# Altium integrated library Linear Technology Power Management System Supervisor, Monitor and Control.IntLib: 1611 symbols (part 69 of 100)
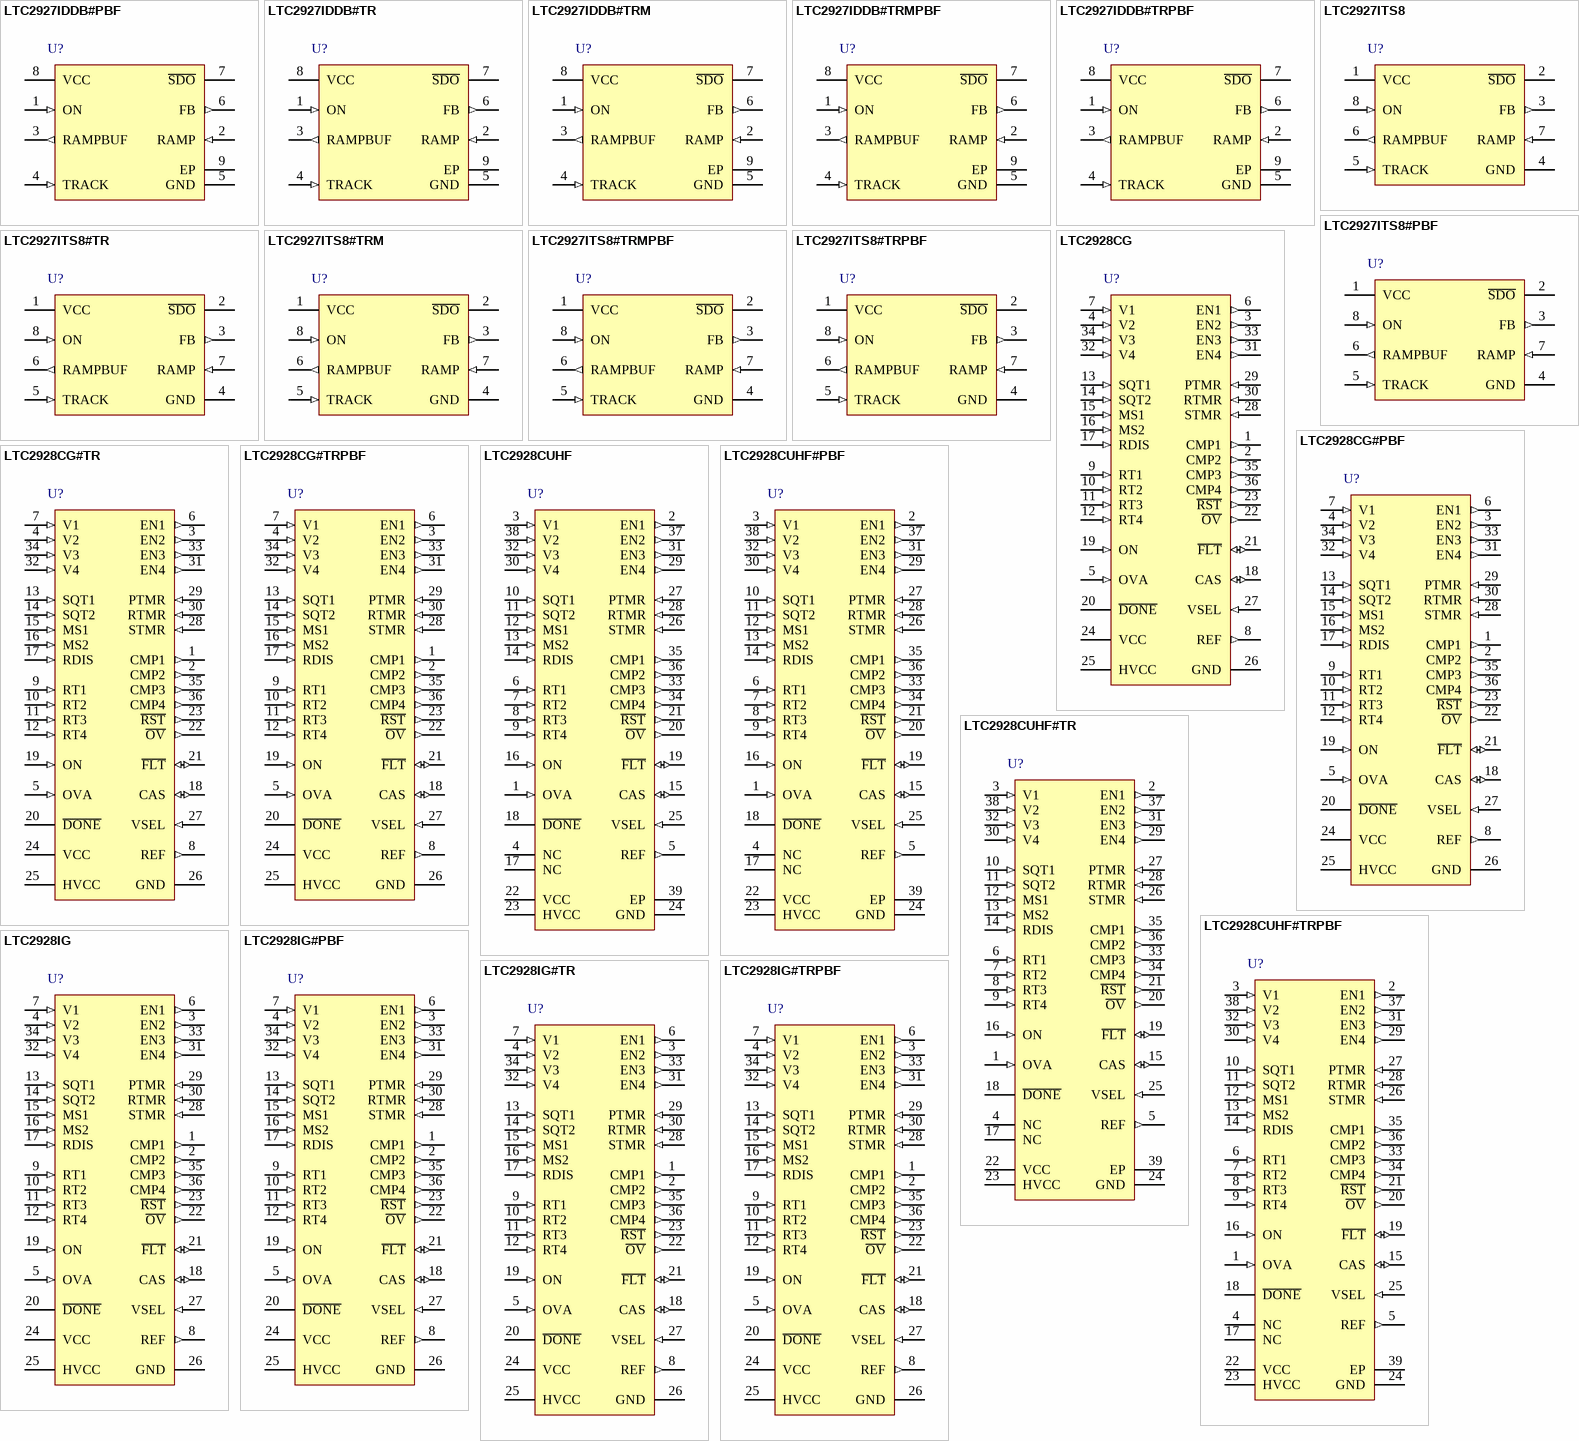
[diagram p113: symbols LTC2927IDDB#PBF to LTC2928IG#TRPBF]

## LTC2927IDDB#TRMPBF
designator U?
Single Power Supply Tracking Controller, 8-pin SON (DDB-8), -40 to 85 degC, Pb-Free, Mini Tape and Reel; Manufacturer: Linear Technology; PartNumber: LTC2927IDDB#TRMPBF; Number of Supplies(#): 1; DatasheetVersion: Rev. B; PackageVersion: Rev. B, 06/2010; PackageReference: DDB-8; PackageDescription: 8-Pin Plastic DFN, Body 3 x 2 mm, Pitch 0.5 mm; Supplier 1: Digi-Key; Supplier Part Number 1: LTC2927IDDB#TRMPBFTR-ND; Supplier 2: Digi-Key; Supplier Part Number 2: LTC2927IDDB#TRMPBFCT-ND; Supplier 3: Digi-Key; Supplier Part Number 3: LTC2927IDDB#TRMPBFDKR-ND; Packing: Mini Tape and Reel; RoHS: TRUE; Mounting Technology: Surface Mount; Code_JEDEC: MO-229; ComponentLink1Description: Manufacturer URL; ComponentLink1URL: http://www.linear.com/; ComponentLink2Description: Datasheet; ComponentLink2URL: http://cds.linear.com/docs/en/datasheet/2927fb.pdf; ComponentLink3Description: Package Specification; ComponentLink3URL: http://cds.linear.com/docs/en/packaging/DFN_8_05-08-1702.pdf
footprint LT-DDB-8_V (SON, 8-Leads, Body 3x2mm, Pitch 0.5mm, Thermal Pad 2.2x0.61mm)
pins: 1 ON (in) "On Control Input. The voltage level of the ON pin relative to its 1.23V threshold (with 75mV hysteresis) controls the tracking direction of the LTC2927. An active high causes a 10uA pull-up current to flow at the RAMP pin, (See Datasheet)", 2 RAMP (in) "Ramp Buffer Input. The RAMP pin is the input to the voltage buffer whose output drives a resistive voltage divider connected to the TRACK pin. Connect this input to a capacitor to set the ramp voltage generated from internal (See Datasheet)", 3 RAMPBUF (out) "Ramp Buffer Output. Provides a low impedance buffered version of the signal on the RAMP pin. This buffered output drives the resistive voltage divider that connects to the TRACK pin. Limit the capacitance at the RAMPBUF pin (See Datasheet)", 4 TRACK (in) "Tracking Control Input. A resistive voltage divider between RAMPBUF and TRACK determines the tracking profi le of the slave supply. TRACK servos to 0.8V, and the current supplied at TRACK is mirrored at FB. The TRACK pin is (See Datasheet)", 5 GND (power) "Device Ground.", 6 FB (out) "Feedback Control Output. FB pulls up on the feedback node of the slave supply. Tracking is achieved by mirroring the current from TRACK into FB. A resistive divider connecting RAMPBUF and TRACK will force the output voltage (See Datasheet)", 7 ~{SDO} (oc) "Slave Supply Shutdown Output. S\D\O\ is an open-drain output that holds the shutdown (RUN/SS) pin of the slave supply low until the VCC pin is pulled above 2.5V, and the ON pin is pulled above 1.23V, or RAMP is above 200mV. (See Datasheet)", 8 VCC (power) "Supply Voltage Input. Operating range is from 2.9V to 5.5V. An undervoltage lockout asserts S\D\O\ until VCC > 2.5V. VCC should be bypassed to GND with a 0.1uF capacitor.", 9 EP (power) "Exposed pad may be left open or connected to device ground."

## LTC2927IDDB#TRPBF
designator U?
Single Power Supply Tracking Controller, 8-pin SON (DDB-8), -40 to 85 degC, Pb-Free, Tape and Reel; Manufacturer: Linear Technology; PartNumber: LTC2927IDDB#TRPBF; Number of Supplies(#): 1; DatasheetVersion: Rev. B; PackageVersion: Rev. B, 06/2010; PackageReference: DDB-8; PackageDescription: 8-Pin Plastic DFN, Body 3 x 2 mm, Pitch 0.5 mm; Supplier 1: Digi-Key; Supplier Part Number 1: LTC2927IDDB#TRPBF-ND; Packing: Tape and Reel; RoHS: TRUE; Mounting Technology: Surface Mount; Code_JEDEC: MO-229; ComponentLink1Description: Manufacturer URL; ComponentLink1URL: http://www.linear.com/; ComponentLink2Description: Datasheet; ComponentLink2URL: http://cds.linear.com/docs/en/datasheet/2927fb.pdf; ComponentLink3Description: Package Specification; ComponentLink3URL: http://cds.linear.com/docs/en/packaging/DFN_8_05-08-1702.pdf
footprint LT-DDB-8_V (SON, 8-Leads, Body 3x2mm, Pitch 0.5mm, Thermal Pad 2.2x0.61mm)
pins: 1 ON (in) "On Control Input. The voltage level of the ON pin relative to its 1.23V threshold (with 75mV hysteresis) controls the tracking direction of the LTC2927. An active high causes a 10uA pull-up current to flow at the RAMP pin, (See Datasheet)", 2 RAMP (in) "Ramp Buffer Input. The RAMP pin is the input to the voltage buffer whose output drives a resistive voltage divider connected to the TRACK pin. Connect this input to a capacitor to set the ramp voltage generated from internal (See Datasheet)", 3 RAMPBUF (out) "Ramp Buffer Output. Provides a low impedance buffered version of the signal on the RAMP pin. This buffered output drives the resistive voltage divider that connects to the TRACK pin. Limit the capacitance at the RAMPBUF pin (See Datasheet)", 4 TRACK (in) "Tracking Control Input. A resistive voltage divider between RAMPBUF and TRACK determines the tracking profi le of the slave supply. TRACK servos to 0.8V, and the current supplied at TRACK is mirrored at FB. The TRACK pin is (See Datasheet)", 5 GND (power) "Device Ground.", 6 FB (out) "Feedback Control Output. FB pulls up on the feedback node of the slave supply. Tracking is achieved by mirroring the current from TRACK into FB. A resistive divider connecting RAMPBUF and TRACK will force the output voltage (See Datasheet)", 7 ~{SDO} (oc) "Slave Supply Shutdown Output. S\D\O\ is an open-drain output that holds the shutdown (RUN/SS) pin of the slave supply low until the VCC pin is pulled above 2.5V, and the ON pin is pulled above 1.23V, or RAMP is above 200mV. (See Datasheet)", 8 VCC (power) "Supply Voltage Input. Operating range is from 2.9V to 5.5V. An undervoltage lockout asserts S\D\O\ until VCC > 2.5V. VCC should be bypassed to GND with a 0.1uF capacitor.", 9 EP (power) "Exposed pad may be left open or connected to device ground."

## LTC2927ITS8
designator U?
Single Power Supply Tracking Controller, 8-pin SOT23 (TS8-8), -40 to 85 degC; Manufacturer: Linear Technology; PartNumber: LTC2927ITS8; Number of Supplies(#): 1; DatasheetVersion: Rev. B; PackageVersion: Rev. A, 08/2010; PackageReference: TS8-8; PackageDescription: 8-Pin Plastic TSOT-23, Body 2.9 x 1.63 mm, Pitch 0.65 mm; RoHS: FALSE; Mounting Technology: Surface Mount; Code_JEDEC: MO-193; ComponentLink1Description: Manufacturer URL; ComponentLink1URL: http://www.linear.com/; ComponentLink2Description: Datasheet; ComponentLink2URL: http://cds.linear.com/docs/en/datasheet/2927fb.pdf; ComponentLink3Description: Package Specification; ComponentLink3URL: http://cds.linear.com/docs/en/packaging/SOT_8_05-08-1637.pdf
footprint LT-TS8-8-TSOT-23_V (SOT23, 8-Leads, Body 2.9x1.75mm, Pitch 0.65mm)
pins: 1 VCC (power) "Supply Voltage Input. Operating range is from 2.9V to 5.5V. An undervoltage lockout asserts S\D\O\ until VCC > 2.5V. VCC should be bypassed to GND with a 0.1uF capacitor.", 2 ~{SDO} (oc) "Slave Supply Shutdown Output. S\D\O\ is an open-drain output that holds the shutdown (RUN/SS) pin of the slave supply low until the VCC pin is pulled above 2.5V, and the ON pin is pulled above 1.23V, or RAMP is above 200mV. (See Datasheet)", 3 FB (out) "Feedback Control Output. FB pulls up on the feedback node of the slave supply. Tracking is achieved by mirroring the current from TRACK into FB. A resistive divider connecting RAMPBUF and TRACK will force the output voltage (See Datasheet)", 4 GND (power) "Device Ground.", 5 TRACK (in) "Tracking Control Input. A resistive voltage divider between RAMPBUF and TRACK determines the tracking profi le of the slave supply. TRACK servos to 0.8V, and the current supplied at TRACK is mirrored at FB. The TRACK pin is (See Datasheet)", 6 RAMPBUF (out) "Ramp Buffer Output. Provides a low impedance buffered version of the signal on the RAMP pin. This buffered output drives the resistive voltage divider that connects to the TRACK pin. Limit the capacitance at the RAMPBUF pin (See Datasheet)", 7 RAMP (in) "Ramp Buffer Input. The RAMP pin is the input to the voltage buffer whose output drives a resistive voltage divider connected to the TRACK pin. Connect this input to a capacitor to set the ramp voltage generated from internal (See Datasheet)", 8 ON (in) "On Control Input. The voltage level of the ON pin relative to its 1.23V threshold (with 75mV hysteresis) controls the tracking direction of the LTC2927. An active high causes a 10uA pull-up current to flow at the RAMP pin, (See Datasheet)"

## LTC2927ITS8#PBF
designator U?
Single Power Supply Tracking Controller, 8-pin SOT23 (TS8-8), -40 to 85 degC, Pb-Free; Manufacturer: Linear Technology; PartNumber: LTC2927ITS8#PBF; Number of Supplies(#): 1; DatasheetVersion: Rev. B; PackageVersion: Rev. A, 08/2010; PackageReference: TS8-8; PackageDescription: 8-Pin Plastic TSOT-23, Body 2.9 x 1.63 mm, Pitch 0.65 mm; RoHS: TRUE; Mounting Technology: Surface Mount; Code_JEDEC: MO-193; ComponentLink1Description: Manufacturer URL; ComponentLink1URL: http://www.linear.com/; ComponentLink2Description: Datasheet; ComponentLink2URL: http://cds.linear.com/docs/en/datasheet/2927fb.pdf; ComponentLink3Description: Package Specification; ComponentLink3URL: http://cds.linear.com/docs/en/packaging/SOT_8_05-08-1637.pdf
footprint LT-TS8-8-TSOT-23_V (SOT23, 8-Leads, Body 2.9x1.75mm, Pitch 0.65mm)
pins: 1 VCC (power) "Supply Voltage Input. Operating range is from 2.9V to 5.5V. An undervoltage lockout asserts S\D\O\ until VCC > 2.5V. VCC should be bypassed to GND with a 0.1uF capacitor.", 2 ~{SDO} (oc) "Slave Supply Shutdown Output. S\D\O\ is an open-drain output that holds the shutdown (RUN/SS) pin of the slave supply low until the VCC pin is pulled above 2.5V, and the ON pin is pulled above 1.23V, or RAMP is above 200mV. (See Datasheet)", 3 FB (out) "Feedback Control Output. FB pulls up on the feedback node of the slave supply. Tracking is achieved by mirroring the current from TRACK into FB. A resistive divider connecting RAMPBUF and TRACK will force the output voltage (See Datasheet)", 4 GND (power) "Device Ground.", 5 TRACK (in) "Tracking Control Input. A resistive voltage divider between RAMPBUF and TRACK determines the tracking profi le of the slave supply. TRACK servos to 0.8V, and the current supplied at TRACK is mirrored at FB. The TRACK pin is (See Datasheet)", 6 RAMPBUF (out) "Ramp Buffer Output. Provides a low impedance buffered version of the signal on the RAMP pin. This buffered output drives the resistive voltage divider that connects to the TRACK pin. Limit the capacitance at the RAMPBUF pin (See Datasheet)", 7 RAMP (in) "Ramp Buffer Input. The RAMP pin is the input to the voltage buffer whose output drives a resistive voltage divider connected to the TRACK pin. Connect this input to a capacitor to set the ramp voltage generated from internal (See Datasheet)", 8 ON (in) "On Control Input. The voltage level of the ON pin relative to its 1.23V threshold (with 75mV hysteresis) controls the tracking direction of the LTC2927. An active high causes a 10uA pull-up current to flow at the RAMP pin, (See Datasheet)"

## LTC2927ITS8#TR
designator U?
Single Power Supply Tracking Controller, 8-pin SOT23 (TS8-8), -40 to 85 degC, Tape and Reel; Manufacturer: Linear Technology; PartNumber: LTC2927ITS8#TR; Number of Supplies(#): 1; DatasheetVersion: Rev. B; PackageVersion: Rev. A, 08/2010; PackageReference: TS8-8; PackageDescription: 8-Pin Plastic TSOT-23, Body 2.9 x 1.63 mm, Pitch 0.65 mm; Supplier 1: Digi-Key; Supplier Part Number 1: LTC2927ITS8#TR-ND; Packing: Tape and Reel; RoHS: FALSE; Mounting Technology: Surface Mount; Code_JEDEC: MO-193; ComponentLink1Description: Manufacturer URL; ComponentLink1URL: http://www.linear.com/; ComponentLink2Description: Datasheet; ComponentLink2URL: http://cds.linear.com/docs/en/datasheet/2927fb.pdf; ComponentLink3Description: Package Specification; ComponentLink3URL: http://cds.linear.com/docs/en/packaging/SOT_8_05-08-1637.pdf
footprint LT-TS8-8-TSOT-23_V (SOT23, 8-Leads, Body 2.9x1.75mm, Pitch 0.65mm)
pins: 1 VCC (power) "Supply Voltage Input. Operating range is from 2.9V to 5.5V. An undervoltage lockout asserts S\D\O\ until VCC > 2.5V. VCC should be bypassed to GND with a 0.1uF capacitor.", 2 ~{SDO} (oc) "Slave Supply Shutdown Output. S\D\O\ is an open-drain output that holds the shutdown (RUN/SS) pin of the slave supply low until the VCC pin is pulled above 2.5V, and the ON pin is pulled above 1.23V, or RAMP is above 200mV. (See Datasheet)", 3 FB (out) "Feedback Control Output. FB pulls up on the feedback node of the slave supply. Tracking is achieved by mirroring the current from TRACK into FB. A resistive divider connecting RAMPBUF and TRACK will force the output voltage (See Datasheet)", 4 GND (power) "Device Ground.", 5 TRACK (in) "Tracking Control Input. A resistive voltage divider between RAMPBUF and TRACK determines the tracking profi le of the slave supply. TRACK servos to 0.8V, and the current supplied at TRACK is mirrored at FB. The TRACK pin is (See Datasheet)", 6 RAMPBUF (out) "Ramp Buffer Output. Provides a low impedance buffered version of the signal on the RAMP pin. This buffered output drives the resistive voltage divider that connects to the TRACK pin. Limit the capacitance at the RAMPBUF pin (See Datasheet)", 7 RAMP (in) "Ramp Buffer Input. The RAMP pin is the input to the voltage buffer whose output drives a resistive voltage divider connected to the TRACK pin. Connect this input to a capacitor to set the ramp voltage generated from internal (See Datasheet)", 8 ON (in) "On Control Input. The voltage level of the ON pin relative to its 1.23V threshold (with 75mV hysteresis) controls the tracking direction of the LTC2927. An active high causes a 10uA pull-up current to flow at the RAMP pin, (See Datasheet)"

## LTC2927ITS8#TRM
designator U?
Single Power Supply Tracking Controller, 8-pin SOT23 (TS8-8), -40 to 85 degC, Mini Tape and Reel; Manufacturer: Linear Technology; PartNumber: LTC2927ITS8#TRM; Number of Supplies(#): 1; DatasheetVersion: Rev. B; PackageVersion: Rev. A, 08/2010; PackageReference: TS8-8; PackageDescription: 8-Pin Plastic TSOT-23, Body 2.9 x 1.63 mm, Pitch 0.65 mm; Supplier 1: Digi-Key; Supplier Part Number 1: LTC2927ITS8#TRM-ND; Packing: Mini Tape and Reel; RoHS: FALSE; Mounting Technology: Surface Mount; Code_JEDEC: MO-193; ComponentLink1Description: Manufacturer URL; ComponentLink1URL: http://www.linear.com/; ComponentLink2Description: Datasheet; ComponentLink2URL: http://cds.linear.com/docs/en/datasheet/2927fb.pdf; ComponentLink3Description: Package Specification; ComponentLink3URL: http://cds.linear.com/docs/en/packaging/SOT_8_05-08-1637.pdf
footprint LT-TS8-8-TSOT-23_V (SOT23, 8-Leads, Body 2.9x1.75mm, Pitch 0.65mm)
pins: 1 VCC (power) "Supply Voltage Input. Operating range is from 2.9V to 5.5V. An undervoltage lockout asserts S\D\O\ until VCC > 2.5V. VCC should be bypassed to GND with a 0.1uF capacitor.", 2 ~{SDO} (oc) "Slave Supply Shutdown Output. S\D\O\ is an open-drain output that holds the shutdown (RUN/SS) pin of the slave supply low until the VCC pin is pulled above 2.5V, and the ON pin is pulled above 1.23V, or RAMP is above 200mV. (See Datasheet)", 3 FB (out) "Feedback Control Output. FB pulls up on the feedback node of the slave supply. Tracking is achieved by mirroring the current from TRACK into FB. A resistive divider connecting RAMPBUF and TRACK will force the output voltage (See Datasheet)", 4 GND (power) "Device Ground.", 5 TRACK (in) "Tracking Control Input. A resistive voltage divider between RAMPBUF and TRACK determines the tracking profi le of the slave supply. TRACK servos to 0.8V, and the current supplied at TRACK is mirrored at FB. The TRACK pin is (See Datasheet)", 6 RAMPBUF (out) "Ramp Buffer Output. Provides a low impedance buffered version of the signal on the RAMP pin. This buffered output drives the resistive voltage divider that connects to the TRACK pin. Limit the capacitance at the RAMPBUF pin (See Datasheet)", 7 RAMP (in) "Ramp Buffer Input. The RAMP pin is the input to the voltage buffer whose output drives a resistive voltage divider connected to the TRACK pin. Connect this input to a capacitor to set the ramp voltage generated from internal (See Datasheet)", 8 ON (in) "On Control Input. The voltage level of the ON pin relative to its 1.23V threshold (with 75mV hysteresis) controls the tracking direction of the LTC2927. An active high causes a 10uA pull-up current to flow at the RAMP pin, (See Datasheet)"

## LTC2927ITS8#TRMPBF
designator U?
Single Power Supply Tracking Controller, 8-pin SOT23 (TS8-8), -40 to 85 degC, Pb-Free, Mini Tape and Reel; Manufacturer: Linear Technology; PartNumber: LTC2927ITS8#TRMPBF; Number of Supplies(#): 1; DatasheetVersion: Rev. B; PackageVersion: Rev. A, 08/2010; PackageReference: TS8-8; PackageDescription: 8-Pin Plastic TSOT-23, Body 2.9 x 1.63 mm, Pitch 0.65 mm; Supplier 1: Digi-Key; Supplier Part Number 1: LTC2927ITS8#TRMPBFTR-ND; Supplier 2: Digi-Key; Supplier Part Number 2: LTC2927ITS8#TRMPBFCT-ND; Supplier 3: Digi-Key; Supplier Part Number 3: LTC2927ITS8#TRMPBFDKR-ND; Supplier 4: Newark; Supplier Part Number 4: 56M7151; Packing: Mini Tape and Reel; RoHS: TRUE; Mounting Technology: Surface Mount; Code_JEDEC: MO-193; ComponentLink1Description: Manufacturer URL; ComponentLink1URL: http://www.linear.com/; ComponentLink2Description: Datasheet; ComponentLink2URL: http://cds.linear.com/docs/en/datasheet/2927fb.pdf; ComponentLink3Description: Package Specification; ComponentLink3URL: http://cds.linear.com/docs/en/packaging/SOT_8_05-08-1637.pdf
footprint LT-TS8-8-TSOT-23_V (SOT23, 8-Leads, Body 2.9x1.75mm, Pitch 0.65mm)
pins: 1 VCC (power) "Supply Voltage Input. Operating range is from 2.9V to 5.5V. An undervoltage lockout asserts S\D\O\ until VCC > 2.5V. VCC should be bypassed to GND with a 0.1uF capacitor.", 2 ~{SDO} (oc) "Slave Supply Shutdown Output. S\D\O\ is an open-drain output that holds the shutdown (RUN/SS) pin of the slave supply low until the VCC pin is pulled above 2.5V, and the ON pin is pulled above 1.23V, or RAMP is above 200mV. (See Datasheet)", 3 FB (out) "Feedback Control Output. FB pulls up on the feedback node of the slave supply. Tracking is achieved by mirroring the current from TRACK into FB. A resistive divider connecting RAMPBUF and TRACK will force the output voltage (See Datasheet)", 4 GND (power) "Device Ground.", 5 TRACK (in) "Tracking Control Input. A resistive voltage divider between RAMPBUF and TRACK determines the tracking profi le of the slave supply. TRACK servos to 0.8V, and the current supplied at TRACK is mirrored at FB. The TRACK pin is (See Datasheet)", 6 RAMPBUF (out) "Ramp Buffer Output. Provides a low impedance buffered version of the signal on the RAMP pin. This buffered output drives the resistive voltage divider that connects to the TRACK pin. Limit the capacitance at the RAMPBUF pin (See Datasheet)", 7 RAMP (in) "Ramp Buffer Input. The RAMP pin is the input to the voltage buffer whose output drives a resistive voltage divider connected to the TRACK pin. Connect this input to a capacitor to set the ramp voltage generated from internal (See Datasheet)", 8 ON (in) "On Control Input. The voltage level of the ON pin relative to its 1.23V threshold (with 75mV hysteresis) controls the tracking direction of the LTC2927. An active high causes a 10uA pull-up current to flow at the RAMP pin, (See Datasheet)"

## LTC2927ITS8#TRPBF
designator U?
Single Power Supply Tracking Controller, 8-pin SOT23 (TS8-8), -40 to 85 degC, Pb-Free, Tape and Reel; Manufacturer: Linear Technology; PartNumber: LTC2927ITS8#TRPBF; Number of Supplies(#): 1; DatasheetVersion: Rev. B; PackageVersion: Rev. A, 08/2010; PackageReference: TS8-8; PackageDescription: 8-Pin Plastic TSOT-23, Body 2.9 x 1.63 mm, Pitch 0.65 mm; Supplier 1: Digi-Key; Supplier Part Number 1: LTC2927ITS8#TRPBF-ND; Supplier 2: Newark; Supplier Part Number 2: 56M7152; Packing: Tape and Reel; RoHS: TRUE; Mounting Technology: Surface Mount; Code_JEDEC: MO-193; ComponentLink1Description: Manufacturer URL; ComponentLink1URL: http://www.linear.com/; ComponentLink2Description: Datasheet; ComponentLink2URL: http://cds.linear.com/docs/en/datasheet/2927fb.pdf; ComponentLink3Description: Package Specification; ComponentLink3URL: http://cds.linear.com/docs/en/packaging/SOT_8_05-08-1637.pdf
footprint LT-TS8-8-TSOT-23_V (SOT23, 8-Leads, Body 2.9x1.75mm, Pitch 0.65mm)
pins: 1 VCC (power) "Supply Voltage Input. Operating range is from 2.9V to 5.5V. An undervoltage lockout asserts S\D\O\ until VCC > 2.5V. VCC should be bypassed to GND with a 0.1uF capacitor.", 2 ~{SDO} (oc) "Slave Supply Shutdown Output. S\D\O\ is an open-drain output that holds the shutdown (RUN/SS) pin of the slave supply low until the VCC pin is pulled above 2.5V, and the ON pin is pulled above 1.23V, or RAMP is above 200mV. (See Datasheet)", 3 FB (out) "Feedback Control Output. FB pulls up on the feedback node of the slave supply. Tracking is achieved by mirroring the current from TRACK into FB. A resistive divider connecting RAMPBUF and TRACK will force the output voltage (See Datasheet)", 4 GND (power) "Device Ground.", 5 TRACK (in) "Tracking Control Input. A resistive voltage divider between RAMPBUF and TRACK determines the tracking profi le of the slave supply. TRACK servos to 0.8V, and the current supplied at TRACK is mirrored at FB. The TRACK pin is (See Datasheet)", 6 RAMPBUF (out) "Ramp Buffer Output. Provides a low impedance buffered version of the signal on the RAMP pin. This buffered output drives the resistive voltage divider that connects to the TRACK pin. Limit the capacitance at the RAMPBUF pin (See Datasheet)", 7 RAMP (in) "Ramp Buffer Input. The RAMP pin is the input to the voltage buffer whose output drives a resistive voltage divider connected to the TRACK pin. Connect this input to a capacitor to set the ramp voltage generated from internal (See Datasheet)", 8 ON (in) "On Control Input. The voltage level of the ON pin relative to its 1.23V threshold (with 75mV hysteresis) controls the tracking direction of the LTC2927. An active high causes a 10uA pull-up current to flow at the RAMP pin, (See Datasheet)"

## LTC2928CG
designator U?
Multichannel Power Supply Sequencer and Supervisor, 36-pin SOP (G-36), 0 to 70 degC; Manufacturer: Linear Technology; PartNumber: LTC2928CG; Number of Supplies(#): 4; PackageReference: G-36; PackageDescription: 36-Pin Plastic SSOP, Body 12.8 x 5.3 mm, Pitch 0.65 mm; RoHS: FALSE; Mounting Technology: Surface Mount; ComponentLink1Description: Manufacturer URL; ComponentLink1URL: http://www.linear.com/; ComponentLink2Description: Datasheet; ComponentLink2URL: http://cds.linear.com/docs/en/datasheet/2928f.pdf; ComponentLink3Description: Package Specification; ComponentLink3URL: http://cds.linear.com/docs/en/packaging/SSOP_36_05-08-1640.pdf
footprint LT-G-36_N (SOP, 36-Leads, Body 13.1x5.6mm, Pitch 0.65mm, IPC Medium Density)
footprint LT-G-36_L (SOP, 36-Leads, Body 13.1x5.6mm, Pitch 0.65mm, IPC High Density)
footprint LT-G-36_M (SOP, 36-Leads, Body 13.1x5.6mm, Pitch 0.65mm, IPC Low Density)
pins: 1 CMP1 (out) "Comparator and / or Fault Status Outputs. The CMP outputs have a weak internal pull-up to VCC and may be pulled above VCC using an external pull-up. During sequence-up or sequence-down operation, all comparator outputs are (See Datasheet)", 2 CMP2 (out) "Comparator and / or Fault Status Outputs. The CMP outputs have a weak internal pull-up to VCC and may be pulled above VCC using an external pull-up. During sequence-up or sequence-down operation, all comparator outputs are (See Datasheet)", 3 EN2 (out) "Enable Output. Connect this output to a power supply shutdown input or an external N-channel MOSFET gate for the supply to be sequenced.", 4 V2 (in) "Voltage Monitor Input.", 5 OVA (in) "Over Voltage Adjust Input. After configuring the undervoltage thresholds, bias this input to set the overvoltage threshold for all positive supplies. Leave the pin floating to set an overvoltage threshold approximately 32% (See Datasheet)", 6 EN1 (out) "Enable Output. Connect this output to a power supply shutdown input or an external N-channel MOSFET gate for the supply to be sequenced.", 7 V1 (in) "Voltage Monitor Input.", 8 REF (out) "Reference Output. REF is used to offset negative supplies connected through resistance to V1. The reference will move during sequence-up and sequence-down operation to effect the selected thresholds. The buffered reference (See Datasheet)", 9 RT1 (in) "Resistive Time Position Configuration Input.", 10 RT2 (in) "Resistive Time Position Configuration Input.", 11 RT3 (in) "Resistive Time Position Configuration Input.", 12 RT4 (in) "Resistive Time Position Configuration Input.", 13 SQT1 (in) "Sequencing Threshold Three State Configuration Input. Select sequencing thresholds as a percentage of the 0.5 V supply monitor threshold for positive supplies and as a percentage of REF for negative supplies.", 14 SQT2 (in) "Sequencing Threshold Three State Configuration Input. Select sequencing thresholds as a percentage of the 0.5 V supply monitor threshold for positive supplies and as a percentage of REF for negative supplies.", 15 MS1 (in) "Master / Slave Three State Configuration Input.", 16 MS2 (in) "Master / Slave Three State Configuration Input.", 17 RDIS (in) "Reset Disable Three State Input. Typically used for supply margining applications. Pull RDIS high or low to force RST high. Leave the RDIS input open to allow R\S\T\ to operate normally.", 18 CAS (io) "Cascade Input / Output. Connect the cascade pin between a master and one or more slave devices to increase the number of supplies that can be sequenced per time position. See Applications Information for details. Do not add (See Datasheet)", 19 ON (in) "Sequence Up / Down Input.", 20 ~{DONE} (hiz) "Sequence Done Output.", 21 ~{FLT} (io) "Fault Input / Output.", 22 ~{OV} (out) "Overvoltage Output.", 23 ~{RST} (out) "Reset Output.", 24 VCC (power) "Power Supply Input / Output.", 25 HVCC (power) "High Voltage (7.2 V to 16.5 V) Power Supply Input.", 26 GND (power) "Device ground.", 27 VSEL (in) "Voltage Monitor Select Input.", 28 STMR (in) "Sequence Timer. Attach an external capacitor to ground to set the adjacent time-position delay between sequenced supplies.", 29 PTMR (in) "Power Good Timer. Attach an external capacitor to ground to set the maximum time allowed for all supplies to reach their configured undervoltage threshold during sequence-up phase (or all supplies below their sequence- down  (See Datasheet)", 30 RTMR (in) "Reset Timer. Attach an external capacitor to ground to set a reset delay time of 4000 ms / uF.", 31 EN4 (out) "Enable Output. Connect this output to a power supply shutdown input or an external N-channel MOSFET gate for the supply to be sequenced.", 32 V4 (in) "Voltage Monitor Input.", 33 EN3 (out) "Enable Output. Connect this output to a power supply shutdown input or an external N-channel MOSFET gate for the supply to be sequenced.", 34 V3 (in) "Voltage Monitor Input.", 35 CMP3 (out) "Comparator and / or Fault Status Outputs. The CMP outputs have a weak internal pull-up to VCC and may be pulled above VCC using an external pull-up. During sequence-up or sequence-down operation, all comparator outputs are (See Datasheet)", 36 CMP4 (out) "Comparator and / or Fault Status Outputs. The CMP outputs have a weak internal pull-up to VCC and may be pulled above VCC using an external pull-up. During sequence-up or sequence-down operation, all comparator outputs are (See Datasheet)"

## LTC2928CG#PBF
designator U?
Multichannel Power Supply Sequencer and Supervisor, 36-pin SOP (G-36), 0 to 70 degC, Pb-Free; Manufacturer: Linear Technology; PartNumber: LTC2928CG#PBF; Number of Supplies(#): 4; PackageReference: G-36; PackageDescription: 36-Pin Plastic SSOP, Body 12.8 x 5.3 mm, Pitch 0.65 mm; Supplier 1: Digi-Key; Supplier Part Number 1: LTC2928CG#PBF-ND; Supplier 2: Newark; Supplier Part Number 2: 56M7154; RoHS: TRUE; Mounting Technology: Surface Mount; ComponentLink1Description: Manufacturer URL; ComponentLink1URL: http://www.linear.com/; ComponentLink2Description: Datasheet; ComponentLink2URL: http://cds.linear.com/docs/en/datasheet/2928f.pdf; ComponentLink3Description: Package Specification; ComponentLink3URL: http://cds.linear.com/docs/en/packaging/SSOP_36_05-08-1640.pdf
footprint LT-G-36_N (SOP, 36-Leads, Body 13.1x5.6mm, Pitch 0.65mm, IPC Medium Density)
footprint LT-G-36_L (SOP, 36-Leads, Body 13.1x5.6mm, Pitch 0.65mm, IPC High Density)
footprint LT-G-36_M (SOP, 36-Leads, Body 13.1x5.6mm, Pitch 0.65mm, IPC Low Density)
pins: 1 CMP1 (out) "Comparator and / or Fault Status Outputs. The CMP outputs have a weak internal pull-up to VCC and may be pulled above VCC using an external pull-up. During sequence-up or sequence-down operation, all comparator outputs are (See Datasheet)", 2 CMP2 (out) "Comparator and / or Fault Status Outputs. The CMP outputs have a weak internal pull-up to VCC and may be pulled above VCC using an external pull-up. During sequence-up or sequence-down operation, all comparator outputs are (See Datasheet)", 3 EN2 (out) "Enable Output. Connect this output to a power supply shutdown input or an external N-channel MOSFET gate for the supply to be sequenced.", 4 V2 (in) "Voltage Monitor Input.", 5 OVA (in) "Over Voltage Adjust Input. After configuring the undervoltage thresholds, bias this input to set the overvoltage threshold for all positive supplies. Leave the pin floating to set an overvoltage threshold approximately 32% (See Datasheet)", 6 EN1 (out) "Enable Output. Connect this output to a power supply shutdown input or an external N-channel MOSFET gate for the supply to be sequenced.", 7 V1 (in) "Voltage Monitor Input.", 8 REF (out) "Reference Output. REF is used to offset negative supplies connected through resistance to V1. The reference will move during sequence-up and sequence-down operation to effect the selected thresholds. The buffered reference (See Datasheet)", 9 RT1 (in) "Resistive Time Position Configuration Input.", 10 RT2 (in) "Resistive Time Position Configuration Input.", 11 RT3 (in) "Resistive Time Position Configuration Input.", 12 RT4 (in) "Resistive Time Position Configuration Input.", 13 SQT1 (in) "Sequencing Threshold Three State Configuration Input. Select sequencing thresholds as a percentage of the 0.5 V supply monitor threshold for positive supplies and as a percentage of REF for negative supplies.", 14 SQT2 (in) "Sequencing Threshold Three State Configuration Input. Select sequencing thresholds as a percentage of the 0.5 V supply monitor threshold for positive supplies and as a percentage of REF for negative supplies.", 15 MS1 (in) "Master / Slave Three State Configuration Input.", 16 MS2 (in) "Master / Slave Three State Configuration Input.", 17 RDIS (in) "Reset Disable Three State Input. Typically used for supply margining applications. Pull RDIS high or low to force RST high. Leave the RDIS input open to allow R\S\T\ to operate normally.", 18 CAS (io) "Cascade Input / Output. Connect the cascade pin between a master and one or more slave devices to increase the number of supplies that can be sequenced per time position. See Applications Information for details. Do not add (See Datasheet)", 19 ON (in) "Sequence Up / Down Input.", 20 ~{DONE} (hiz) "Sequence Done Output.", 21 ~{FLT} (io) "Fault Input / Output.", 22 ~{OV} (out) "Overvoltage Output.", 23 ~{RST} (out) "Reset Output.", 24 VCC (power) "Power Supply Input / Output.", 25 HVCC (power) "High Voltage (7.2 V to 16.5 V) Power Supply Input.", 26 GND (power) "Device ground.", 27 VSEL (in) "Voltage Monitor Select Input.", 28 STMR (in) "Sequence Timer. Attach an external capacitor to ground to set the adjacent time-position delay between sequenced supplies.", 29 PTMR (in) "Power Good Timer. Attach an external capacitor to ground to set the maximum time allowed for all supplies to reach their configured undervoltage threshold during sequence-up phase (or all supplies below their sequence- down  (See Datasheet)", 30 RTMR (in) "Reset Timer. Attach an external capacitor to ground to set a reset delay time of 4000 ms / uF.", 31 EN4 (out) "Enable Output. Connect this output to a power supply shutdown input or an external N-channel MOSFET gate for the supply to be sequenced.", 32 V4 (in) "Voltage Monitor Input.", 33 EN3 (out) "Enable Output. Connect this output to a power supply shutdown input or an external N-channel MOSFET gate for the supply to be sequenced.", 34 V3 (in) "Voltage Monitor Input.", 35 CMP3 (out) "Comparator and / or Fault Status Outputs. The CMP outputs have a weak internal pull-up to VCC and may be pulled above VCC using an external pull-up. During sequence-up or sequence-down operation, all comparator outputs are (See Datasheet)", 36 CMP4 (out) "Comparator and / or Fault Status Outputs. The CMP outputs have a weak internal pull-up to VCC and may be pulled above VCC using an external pull-up. During sequence-up or sequence-down operation, all comparator outputs are (See Datasheet)"

## LTC2928CG#TR
designator U?
Multichannel Power Supply Sequencer and Supervisor, 36-pin SOP (G-36), 0 to 70 degC, Tape and Reel; Manufacturer: Linear Technology; PartNumber: LTC2928CG#TR; Number of Supplies(#): 4; PackageReference: G-36; PackageDescription: 36-Pin Plastic SSOP, Body 12.8 x 5.3 mm, Pitch 0.65 mm; Packing: Tape and Reel; RoHS: FALSE; Mounting Technology: Surface Mount; ComponentLink1Description: Manufacturer URL; ComponentLink1URL: http://www.linear.com/; ComponentLink2Description: Datasheet; ComponentLink2URL: http://cds.linear.com/docs/en/datasheet/2928f.pdf; ComponentLink3Description: Package Specification; ComponentLink3URL: http://cds.linear.com/docs/en/packaging/SSOP_36_05-08-1640.pdf
footprint LT-G-36_N (SOP, 36-Leads, Body 13.1x5.6mm, Pitch 0.65mm, IPC Medium Density)
footprint LT-G-36_L (SOP, 36-Leads, Body 13.1x5.6mm, Pitch 0.65mm, IPC High Density)
footprint LT-G-36_M (SOP, 36-Leads, Body 13.1x5.6mm, Pitch 0.65mm, IPC Low Density)
pins: 1 CMP1 (out) "Comparator and / or Fault Status Outputs. The CMP outputs have a weak internal pull-up to VCC and may be pulled above VCC using an external pull-up. During sequence-up or sequence-down operation, all comparator outputs are (See Datasheet)", 2 CMP2 (out) "Comparator and / or Fault Status Outputs. The CMP outputs have a weak internal pull-up to VCC and may be pulled above VCC using an external pull-up. During sequence-up or sequence-down operation, all comparator outputs are (See Datasheet)", 3 EN2 (out) "Enable Output. Connect this output to a power supply shutdown input or an external N-channel MOSFET gate for the supply to be sequenced.", 4 V2 (in) "Voltage Monitor Input.", 5 OVA (in) "Over Voltage Adjust Input. After configuring the undervoltage thresholds, bias this input to set the overvoltage threshold for all positive supplies. Leave the pin floating to set an overvoltage threshold approximately 32% (See Datasheet)", 6 EN1 (out) "Enable Output. Connect this output to a power supply shutdown input or an external N-channel MOSFET gate for the supply to be sequenced.", 7 V1 (in) "Voltage Monitor Input.", 8 REF (out) "Reference Output. REF is used to offset negative supplies connected through resistance to V1. The reference will move during sequence-up and sequence-down operation to effect the selected thresholds. The buffered reference (See Datasheet)", 9 RT1 (in) "Resistive Time Position Configuration Input.", 10 RT2 (in) "Resistive Time Position Configuration Input.", 11 RT3 (in) "Resistive Time Position Configuration Input.", 12 RT4 (in) "Resistive Time Position Configuration Input.", 13 SQT1 (in) "Sequencing Threshold Three State Configuration Input. Select sequencing thresholds as a percentage of the 0.5 V supply monitor threshold for positive supplies and as a percentage of REF for negative supplies.", 14 SQT2 (in) "Sequencing Threshold Three State Configuration Input. Select sequencing thresholds as a percentage of the 0.5 V supply monitor threshold for positive supplies and as a percentage of REF for negative supplies.", 15 MS1 (in) "Master / Slave Three State Configuration Input.", 16 MS2 (in) "Master / Slave Three State Configuration Input.", 17 RDIS (in) "Reset Disable Three State Input. Typically used for supply margining applications. Pull RDIS high or low to force RST high. Leave the RDIS input open to allow R\S\T\ to operate normally.", 18 CAS (io) "Cascade Input / Output. Connect the cascade pin between a master and one or more slave devices to increase the number of supplies that can be sequenced per time position. See Applications Information for details. Do not add (See Datasheet)", 19 ON (in) "Sequence Up / Down Input.", 20 ~{DONE} (hiz) "Sequence Done Output.", 21 ~{FLT} (io) "Fault Input / Output.", 22 ~{OV} (out) "Overvoltage Output.", 23 ~{RST} (out) "Reset Output.", 24 VCC (power) "Power Supply Input / Output.", 25 HVCC (power) "High Voltage (7.2 V to 16.5 V) Power Supply Input.", 26 GND (power) "Device ground.", 27 VSEL (in) "Voltage Monitor Select Input.", 28 STMR (in) "Sequence Timer. Attach an external capacitor to ground to set the adjacent time-position delay between sequenced supplies.", 29 PTMR (in) "Power Good Timer. Attach an external capacitor to ground to set the maximum time allowed for all supplies to reach their configured undervoltage threshold during sequence-up phase (or all supplies below their sequence- down  (See Datasheet)", 30 RTMR (in) "Reset Timer. Attach an external capacitor to ground to set a reset delay time of 4000 ms / uF.", 31 EN4 (out) "Enable Output. Connect this output to a power supply shutdown input or an external N-channel MOSFET gate for the supply to be sequenced.", 32 V4 (in) "Voltage Monitor Input.", 33 EN3 (out) "Enable Output. Connect this output to a power supply shutdown input or an external N-channel MOSFET gate for the supply to be sequenced.", 34 V3 (in) "Voltage Monitor Input.", 35 CMP3 (out) "Comparator and / or Fault Status Outputs. The CMP outputs have a weak internal pull-up to VCC and may be pulled above VCC using an external pull-up. During sequence-up or sequence-down operation, all comparator outputs are (See Datasheet)", 36 CMP4 (out) "Comparator and / or Fault Status Outputs. The CMP outputs have a weak internal pull-up to VCC and may be pulled above VCC using an external pull-up. During sequence-up or sequence-down operation, all comparator outputs are (See Datasheet)"

## LTC2928CG#TRPBF
designator U?
Multichannel Power Supply Sequencer and Supervisor, 36-pin SOP (G-36), 0 to 70 degC, Pb-Free, Tape and Reel; Manufacturer: Linear Technology; PartNumber: LTC2928CG#TRPBF; Number of Supplies(#): 4; PackageReference: G-36; PackageDescription: 36-Pin Plastic SSOP, Body 12.8 x 5.3 mm, Pitch 0.65 mm; Supplier 1: Digi-Key; Supplier Part Number 1: LTC2928CG#TRPBF-ND; Packing: Tape and Reel; RoHS: TRUE; Mounting Technology: Surface Mount; ComponentLink1Description: Manufacturer URL; ComponentLink1URL: http://www.linear.com/; ComponentLink2Description: Datasheet; ComponentLink2URL: http://cds.linear.com/docs/en/datasheet/2928f.pdf; ComponentLink3Description: Package Specification; ComponentLink3URL: http://cds.linear.com/docs/en/packaging/SSOP_36_05-08-1640.pdf
footprint LT-G-36_N (SOP, 36-Leads, Body 13.1x5.6mm, Pitch 0.65mm, IPC Medium Density)
footprint LT-G-36_L (SOP, 36-Leads, Body 13.1x5.6mm, Pitch 0.65mm, IPC High Density)
footprint LT-G-36_M (SOP, 36-Leads, Body 13.1x5.6mm, Pitch 0.65mm, IPC Low Density)
pins: 1 CMP1 (out) "Comparator and / or Fault Status Outputs. The CMP outputs have a weak internal pull-up to VCC and may be pulled above VCC using an external pull-up. During sequence-up or sequence-down operation, all comparator outputs are (See Datasheet)", 2 CMP2 (out) "Comparator and / or Fault Status Outputs. The CMP outputs have a weak internal pull-up to VCC and may be pulled above VCC using an external pull-up. During sequence-up or sequence-down operation, all comparator outputs are (See Datasheet)", 3 EN2 (out) "Enable Output. Connect this output to a power supply shutdown input or an external N-channel MOSFET gate for the supply to be sequenced.", 4 V2 (in) "Voltage Monitor Input.", 5 OVA (in) "Over Voltage Adjust Input. After configuring the undervoltage thresholds, bias this input to set the overvoltage threshold for all positive supplies. Leave the pin floating to set an overvoltage threshold approximately 32% (See Datasheet)", 6 EN1 (out) "Enable Output. Connect this output to a power supply shutdown input or an external N-channel MOSFET gate for the supply to be sequenced.", 7 V1 (in) "Voltage Monitor Input.", 8 REF (out) "Reference Output. REF is used to offset negative supplies connected through resistance to V1. The reference will move during sequence-up and sequence-down operation to effect the selected thresholds. The buffered reference (See Datasheet)", 9 RT1 (in) "Resistive Time Position Configuration Input.", 10 RT2 (in) "Resistive Time Position Configuration Input.", 11 RT3 (in) "Resistive Time Position Configuration Input.", 12 RT4 (in) "Resistive Time Position Configuration Input.", 13 SQT1 (in) "Sequencing Threshold Three State Configuration Input. Select sequencing thresholds as a percentage of the 0.5 V supply monitor threshold for positive supplies and as a percentage of REF for negative supplies.", 14 SQT2 (in) "Sequencing Threshold Three State Configuration Input. Select sequencing thresholds as a percentage of the 0.5 V supply monitor threshold for positive supplies and as a percentage of REF for negative supplies.", 15 MS1 (in) "Master / Slave Three State Configuration Input.", 16 MS2 (in) "Master / Slave Three State Configuration Input.", 17 RDIS (in) "Reset Disable Three State Input. Typically used for supply margining applications. Pull RDIS high or low to force RST high. Leave the RDIS input open to allow R\S\T\ to operate normally.", 18 CAS (io) "Cascade Input / Output. Connect the cascade pin between a master and one or more slave devices to increase the number of supplies that can be sequenced per time position. See Applications Information for details. Do not add (See Datasheet)", 19 ON (in) "Sequence Up / Down Input.", 20 ~{DONE} (hiz) "Sequence Done Output.", 21 ~{FLT} (io) "Fault Input / Output.", 22 ~{OV} (out) "Overvoltage Output.", 23 ~{RST} (out) "Reset Output.", 24 VCC (power) "Power Supply Input / Output.", 25 HVCC (power) "High Voltage (7.2 V to 16.5 V) Power Supply Input.", 26 GND (power) "Device ground.", 27 VSEL (in) "Voltage Monitor Select Input.", 28 STMR (in) "Sequence Timer. Attach an external capacitor to ground to set the adjacent time-position delay between sequenced supplies.", 29 PTMR (in) "Power Good Timer. Attach an external capacitor to ground to set the maximum time allowed for all supplies to reach their configured undervoltage threshold during sequence-up phase (or all supplies below their sequence- down  (See Datasheet)", 30 RTMR (in) "Reset Timer. Attach an external capacitor to ground to set a reset delay time of 4000 ms / uF.", 31 EN4 (out) "Enable Output. Connect this output to a power supply shutdown input or an external N-channel MOSFET gate for the supply to be sequenced.", 32 V4 (in) "Voltage Monitor Input.", 33 EN3 (out) "Enable Output. Connect this output to a power supply shutdown input or an external N-channel MOSFET gate for the supply to be sequenced.", 34 V3 (in) "Voltage Monitor Input.", 35 CMP3 (out) "Comparator and / or Fault Status Outputs. The CMP outputs have a weak internal pull-up to VCC and may be pulled above VCC using an external pull-up. During sequence-up or sequence-down operation, all comparator outputs are (See Datasheet)", 36 CMP4 (out) "Comparator and / or Fault Status Outputs. The CMP outputs have a weak internal pull-up to VCC and may be pulled above VCC using an external pull-up. During sequence-up or sequence-down operation, all comparator outputs are (See Datasheet)"